# Altium footprint library ADS805_DDS_Ext_Board_v3.PcbLib: 21 footprints (part 1 of 2)
Each footprint in its own frame and in the unit in brackets; x right, y up, seen from the top. Pads: shape width x height; smd on the part's side, far side on the other; paste and mask are expansions set on the pad; w line width, h text height; cw(c..) or ccw(c..) is an arc to the next point about the centre after c.
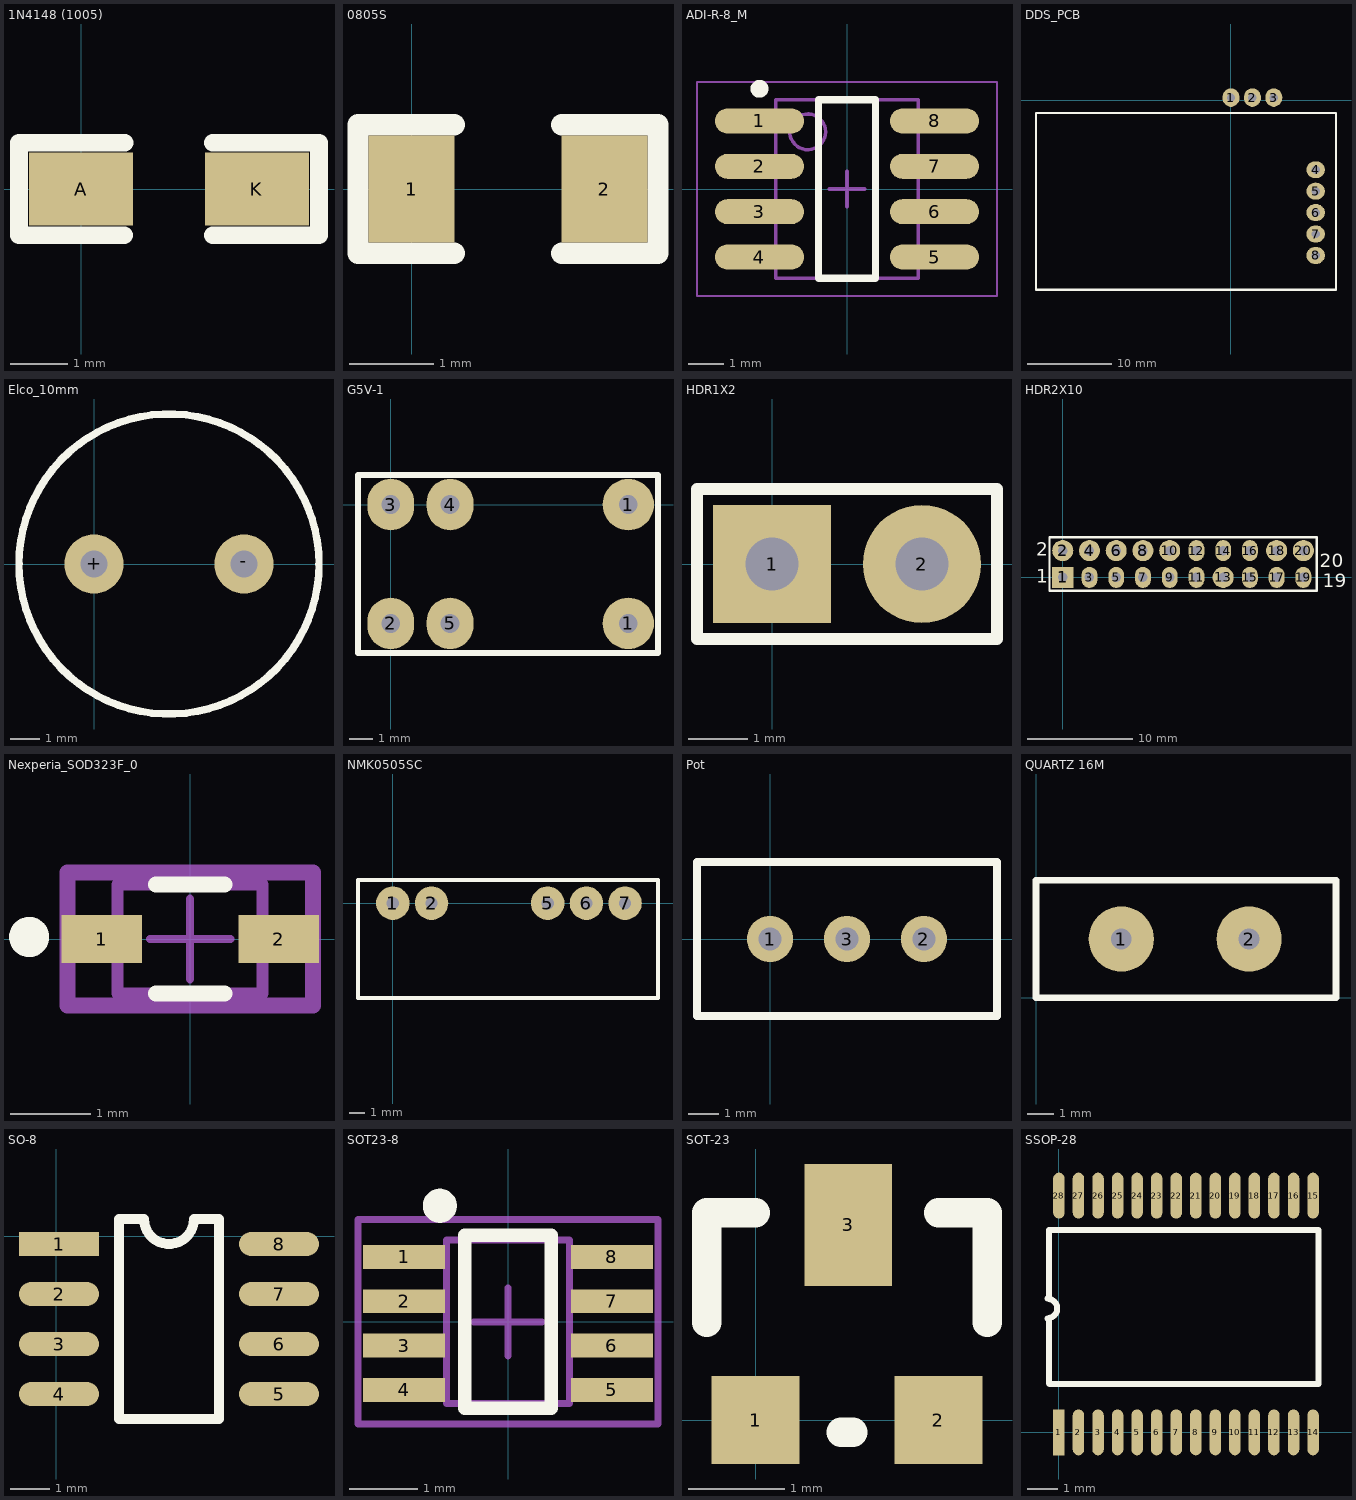
[diagram p0: the footprints below, top view; thin cyan lines are the x and y axes]

## 1N4148 (1005) [mm]
pads (2):
  rect 1.8x1.27 smd: A(0,0) K(3.05,0)
Top Overlay:
  lines w0.305: -1.075,-0.8 0.75,-0.8 ; -1.075,-0.786 -1.075,0.8 0.755,0.8 ; 2.284,-0.8 4.125,-0.8 4.125,0.786 ; 2.284,0.8 4.125,0.8

## 0805S [mil]
pads (2):
  rect 40x50 smd: 1(0,0) 2(90,0)
Top Overlay:
  lines w10: 20,-30 -25,-30 -25,30 20,30 ; 70,-30 115,-30 115,30 70,30

## ADI-R-8_M [mm]
pads (8):
  oval 2.5x0.7 smd: 1(-2.45,1.905) 2(-2.45,0.635) 3(-2.45,-0.635) 4(-2.45,-1.905) 5(2.45,-1.905) 6(2.45,-0.635) 7(2.45,0.635) 8(2.45,1.905)
Top Overlay:
  circle w0.25: c-2.45,2.805 r0.125
  lines w0.2: -0.8,-2.5 -0.8,2.5 0.8,2.5 0.8,-2.5 -0.8,-2.5
Mechanical 13:
  circle w0.1: c-1.1,1.6 r0.5
  lines w0.1: -2,-2.5 -2,2.5 2,2.5 2,-2.5 -2,-2.5
Mechanical 15:
  lines w0.05: -4.2,-3 -4.2,3 4.2,3 4.2,-3 -4.2,-3
  lines w0.1: -0.5,0 0.5,0 ; 0,-0.5 0,0.5
3D body: height 1.75, standoff 0.1, extent -2,-2.5 2,2.5

## DDS_PCB [mm]
pads (8):
  oval 2x2.2 hole 1: 1(0,0.3) 2(2.54,0.3) 3(5.08,0.3)
  oval 2.2x2 hole 1: 4(10.033,-8.255) 5(10.033,-10.795) 6(10.033,-13.335) 7(10.033,-15.875) 8(10.033,-18.415)
Top Overlay:
  lines w0.254: -23.114,-22.479 12.446,-22.479 12.446,-1.524 -23.114,-1.524 -23.114,-22.479

## Elco_10mm [mm]
pads (2):
  round 2 hole 0.9: +(0,0) -(5.08,0)
Top Overlay:
  circle w0.254: c2.54,0 r5.08

## G5V-1 [mm]
pads (6):
  round 2.2 hole 0.8: 1(10.16,-5.08) 1(10.16,0)
  oval 2x2.2 hole 0.8: 2(0,-5.08) 3(0,0) 4(2.54,0) 5(2.54,-5.08)
Top Overlay:
  lines w0.254: -1.397,-6.35 -1.397,1.27 11.43,1.27 11.43,-6.35 -1.397,-6.35

## HDR1X2 [mm]
pads (2):
  rect 2x2 hole 0.9: 1(0,0)
  round 2 hole 0.9: 2(2.54,0)
Top Overlay:
  lines w0.2: -1.27,-1.27 -1.27,1.27 3.81,1.27 3.81,-1.27 -1.27,-1.27

## HDR2X10 [mm]
pads (20):
  rect 2x2 hole 0.9: 1(0,0)
  round 2 hole 0.9: 2(0,2.54) 4(2.54,2.54) 6(5.08,2.54) 8(7.62,2.54) 10(10.16,2.54) 13(15.24,0) 18(20.32,2.54) 20(22.86,2.54)
  oval 1.5x2 hole 0.9: 3(2.54,0) 5(5.08,0) 7(7.62,0) 9(10.16,0) 11(12.7,0) 12(12.7,2.54) 14(15.24,2.54) 15(17.78,0) 16(17.78,2.54) 17(20.32,0) 19(22.86,0)
Top Overlay:
  lines w0.2: -1.27,-1.27 -1.27,3.81 0.635,3.81 24.13,3.81 24.13,-1.27 0.635,-1.27 -1.27,-1.27
  text "2" at -2.54,2.032 h1.27
  text "1" at -2.54,-0.508 h1.27
  text "19" at 24.689,-0.939 h1.27
  text "20" at 24.435,0.966 h1.27

## Nexperia_SOD323F_0 [mm]
pads (2):
  rect 1x0.6 smd paste-1000 mask+0: 1(-1.1,0) 2(1.1,0)
Top Overlay:
  circle w0.25: c-2,0.025 r0.125
  lines w0.2: -0.425,-0.675 0.425,-0.675 ; -0.425,0.675 0.425,0.675
Top Paste:
  rectangle: -1.35,-0.25 -0.85,0.25
  rectangle: 0.85,-0.25 1.35,0.25
Mechanical 10:
  lines w0.2: -1.525,-0.825 1.525,-0.825 1.525,0.825 -1.525,0.825 -1.525,-0.825
  text ".Designator" at 0,0 h1
Mechanical 12:
  lines w0.15: -0.9,-0.675 0.9,-0.675 0.9,0.675 -0.9,0.675 -0.9,-0.675
Mechanical 15:
  lines w0.1: -0.5,0 0.5,0 ; 0,-0.5 0,0.5
  lines w0.2: -1.525,-0.825 1.525,-0.825 1.525,0.825 -1.525,0.825 -1.525,-0.825
3D body "Diode_Nexperia_BAS16J_eec.STEP": height 0.74, standoff 0, extent -1.25,-0.625 1.25,0.625

## NMK0505SC [mm]
pads (5):
  round 2.2 hole 0.8: 1(0,0) 2(2.54,0) 5(10.16,0) 6(12.7,0) 7(15.24,0)
Top Overlay:
  lines w0.254: -2.286,-6.223 17.399,-6.223 17.399,1.524 -2.286,1.524 -2.286,-6.223

## Pot [mil]
pads (3):
  round 60 hole 30: 1(0,0) 2(200,0) 3(100,0)
Top Overlay:
  lines w10: -95,-100 -95,100 295,100 295,-100 -95,-100

## QUARTZ 16M [mm]
pads (2):
  round 2.5 hole 0.8: 1(3.27,2.25) 2(8.17,2.25)
Top Overlay:
  lines w0.254: 0,3.4 0,4.5 11.5,4.5 11.5,0.889 ; 0,3.556 0,0 11.5,0 11.5,1.1

## SO-8 [mil]
pads (8):
  rect 80x24 smd: 1(3,-8)
  oval 80x24 smd: 2(3,-58) 3(3,-108) 4(3,-158) 5(223,-158) 6(223,-108) 7(223,-58) 8(223,-8)
Top Overlay:
  lines w10: 63,-183 63,17 88,17 ccw(c113,17) 138,17 163,17 163,-183 63,-183

## SOT23-8 [mm]
pads (8):
  rect 1.2x0.35 smd: 1(-1.524,0.95) 2(-1.524,0.3) 3(-1.524,-0.35) 4(-1.524,-1) 5(1.524,-1) 6(1.524,-0.35) 7(1.524,0.3) 8(1.524,0.95)
Top Overlay:
  circle w0.25: c-1,1.7 r0.125
  lines w0.2: -0.635,-1.27 0.635,-1.27 0.635,1.27 -0.635,1.27 -0.635,-1.27
Mechanical 13:
  lines w0.1: -0.9,-1.2 -0.9,1.2 0.9,1.2 0.9,-1.2 -0.9,-1.2
Mechanical 15:
  lines w0.1: -0.501,-0.003 0.499,-0.003 ; -0.001,-0.503 -0.001,0.497 ; -2.2,-1.5 -2.2,1.5 2.2,1.5 2.2,-1.5 -2.2,-1.5
3D body "User Library-SOT353-1.step": height 1.1, standoff 0, extent -1.201,-1.098 1.199,1.102

## SOT-23 [mil]
pads (3):
  rect 36x36 smd: 1(0,0) 2(75,0)
  rect 36x50 smd: 3(38,80)
Top Overlay:
  lines w12: -20,40 -20,85 0,85 ; 35,-5 40,-5 ; 75,85 95,85 95,40

## SSOP-28 [mil]
pads (28):
  rect 15x60 smd: 1(0,0)
  oval 15x60 smd: 2(25.59,0) 3(51.18,0) 4(76.77,0) 5(102.36,0) 6(127.95,0) 7(153.54,0) 8(179.13,0) 9(204.72,0) 10(230.31,0) 11(255.91,0) 12(281.5,0) 13(307.09,0) 14(332.68,0) 15(332.68,310) 16(307.09,310) 17(281.5,310) 18(255.91,310) 19(230.31,310) 20(204.72,310) 21(179.13,310) 22(153.54,310) 23(127.95,310) 24(102.36,310) 25(76.77,310) 26(51.18,310) 27(25.59,310) 28(0,310)
Top Overlay:
  lines w7.87: -15,149.41 ccw(c-15,162.21) -15,175 ; -12.99,145 -12.99,64.17 -12,63.18 340,63.18 340,265 -13,265 -13,175